# Altium schematic symbol library TB6612FNG.SchLib: 1 symbol
Pins are listed as number, name and electrical type; pins without a type are passive.

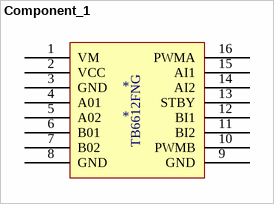
[diagram p0: symbol Component_1]

## Component_1
designator *
footprint PCBComponent_1
pins: 1 VM, 2 VCC, 3 GND, 4 A01, 5 A02, 6 B01, 7 B02, 8 GND, 9 GND, 10 PWMB, 11 BI2, 12 BI1, 13 STBY, 14 AI2, 15 AI1, 16 PWMA
text: TB6612FNG